# Altium footprint library HyTechDevices.PCBLIB: 204 footprints (part 2 of 13)
Each footprint in its own frame and in the unit in brackets; x right, y up, seen from the top. Pads: shape width x height; smd on the part's side, far side on the other; paste and mask are expansions set on the pad; w line width, h text height; cw(c..) or ccw(c..) is an arc to the next point about the centre after c.
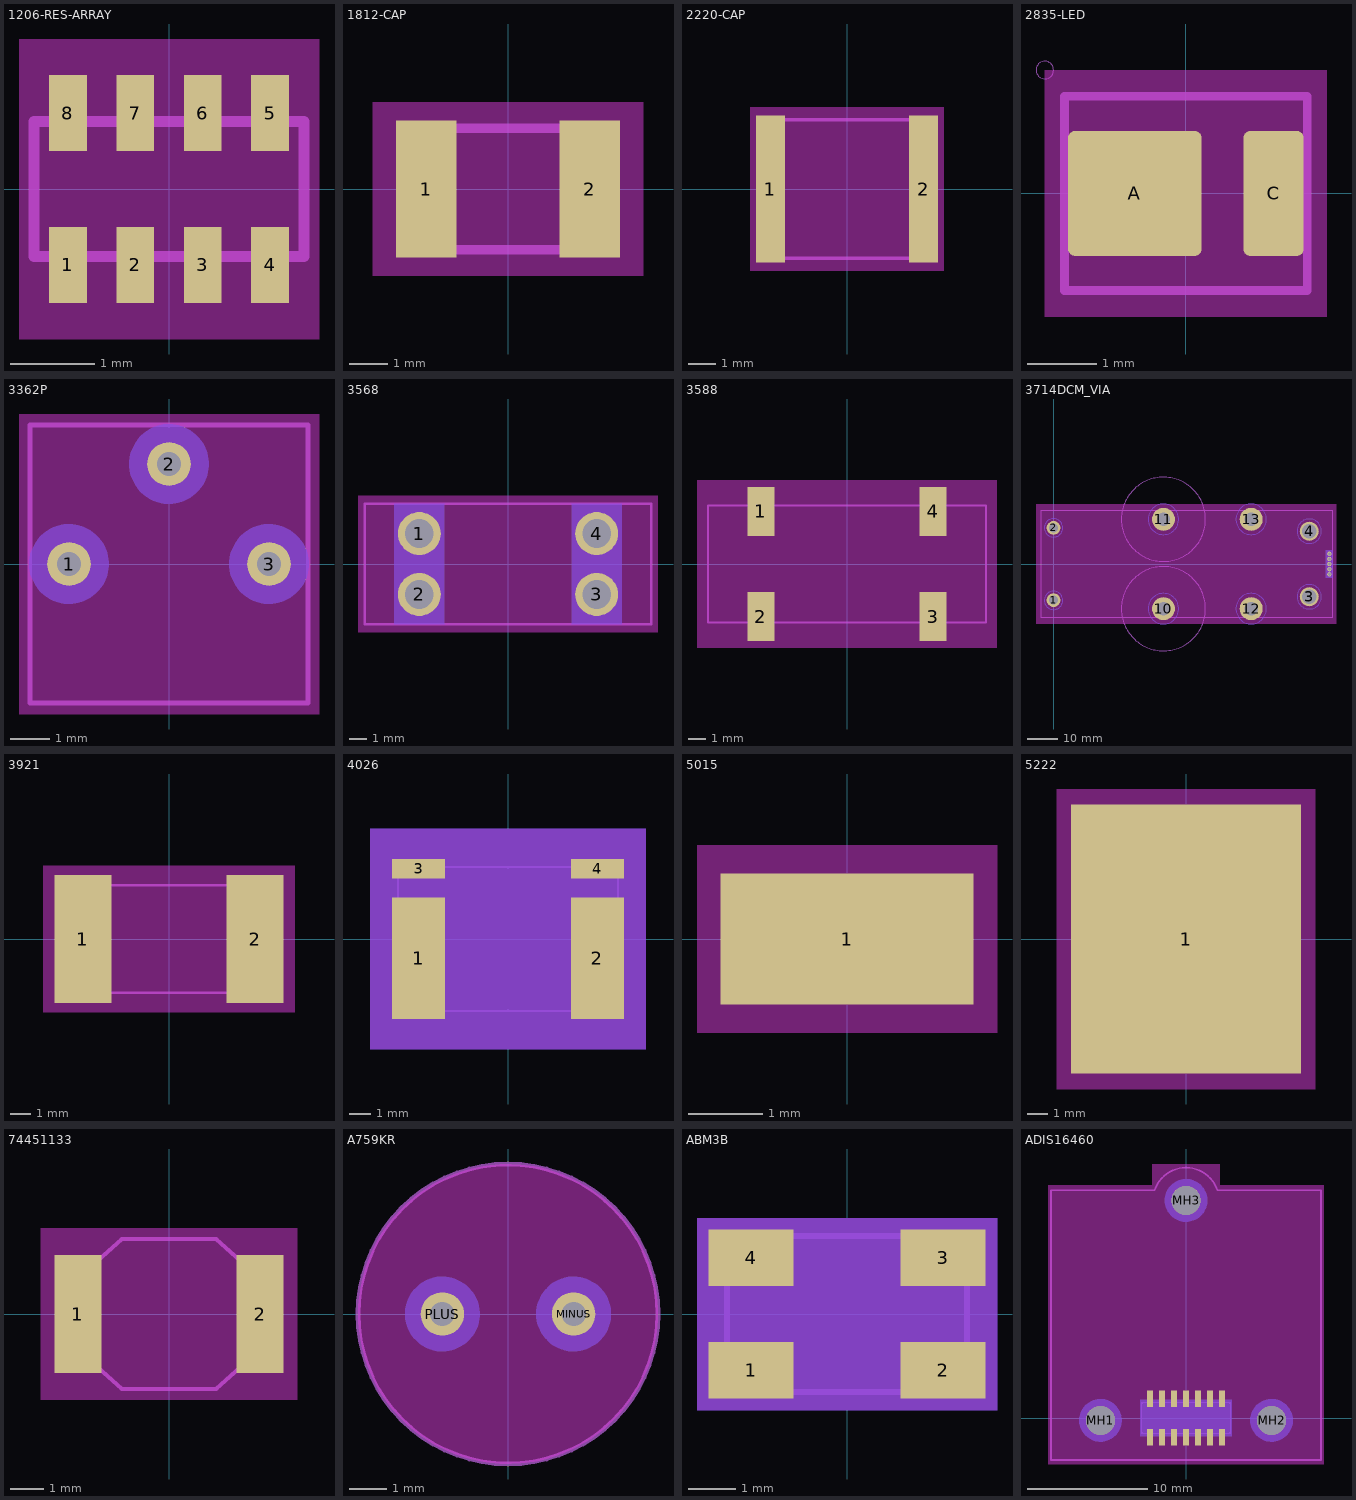
[diagram p1: the footprints below, top view; thin cyan lines are the x and y axes]

## 1206-RES-ARRAY [mil]
pads (8):
  rect 17.72x35.43 smd: 1(-47.24,-35.43) 2(-15.75,-35.43) 3(15.75,-35.43) 4(47.24,-35.43) 5(47.24,35.43) 6(15.75,35.43) 7(-15.75,35.43) 8(-47.24,35.43)
Top keep-out:
  region: -70,-70 -70,70 70,70 70,-70
tPlace:
  lines w5: -62.99,-31.5 62.99,-31.5 62.99,31.5 -62.99,31.5 -62.99,-31.5

## 1812-CAP [mil]
pads (2):
  rect 62.99x141.73 smd: 1(-84.65,0) 2(84.65,0)
Top keep-out:
  region: -140,-90 -140,90 140,90 140,-90
tPlace:
  lines w10: -98.43,-62.99 98.43,-62.99 98.43,62.99 -98.43,62.99 -98.43,-62.99

## 2220-CAP [mil]
pads (2):
  rect 41.34x208.66 smd: 1(-109.25,0) 2(109.25,0)
Top keep-out:
  region: -137.8,-116.14 -137.8,116.14 137.8,116.14 137.8,-116.14
tPlace:
  lines w5: -112.2,-98.43 112.2,-98.43 112.2,98.43 -112.2,98.43 -112.2,-98.43

## 2835-LED [mil]
pads (2):
  rrect11% 75.98x70.87 smd: A(-28.94,0)
  rrect22% 34.25x70.87 smd: C(49.8,0)
Top keep-out:
  region: -80,-70 -80,70 80,70 80,-70
tPlace:
  circle w0: c-80,70 r5
  lines w5: -68.9,-55.12 68.9,-55.12 68.9,55.12 -68.9,55.12 -68.9,-55.12
  text "+ -" at 0,60 h27.2

## 3362P [mil]
pads (3):
  round 43.62 hole 23.62: 1(-100,0) 2(0,100) 3(100,0)
Top keep-out:
  region: -150,-150 -150,150 150,150 150,-150
Bottom keep-out:
  circle w40: c-100,0 r20
  circle w40: c100,0 r20
  circle w40: c0,100 r20
tPlace:
  lines w5: -138.98,-138.98 138.98,-138.98 138.98,138.98 -138.98,138.98 -138.98,-138.98

## 3568 [mil]
pads (4):
  round 94.5 hole 63: 1(-195,67) 2(-195,-67) 3(195,-67) 4(195,67)
Top keep-out:
  region: -330,-150 -330,150 330,150 330,-150
Bottom keep-out:
  region: -250,-132.5 -250,132.5 -140,132.5 -140,-132.5
  region: 140,-132.5 140,132.5 250,132.5 250,-132.5
tPlace:
  lines w5: -315,-132.5 -315,132.5 315,132.5 315,-132.5 -315,-132.5

## 3588 [mil]
pads (4):
  rect 62x111 smd: 1(-195,119.5) 2(-195,-119.5) 3(195,-119.5) 4(195,119.5)
Top keep-out:
  region: -340,-190 -340,190 340,190 340,-190
tPlace:
  lines w5: -315,-132.5 315,-132.5 315,132.5 -315,132.5 -315,-132.5

## 3714DCM_VIA [mil]
pads (13):
  round 180 hole 120: 1(0,-473.5) 2(0,473.5)
  round 250 hole 190: 3(3350,-429.5) 4(3350,429.5)
  round 56 hole 40: 5(3613,-134.5) 6(3613,-67.5) 7(3613,-0.5) 8(3613,66.5) 9(3613,133.5)
  round 300 hole 172: 10(1439,-585.5) 11(1439,585.5) 12(2589,-585.5) 13(2589,585.5)
Top keep-out:
  region: -230,-780 -230,780 3700,780 3700,-780
Bottom keep-out:
  circle w5: c0,473.5 r120
  circle w5: c0,-476.5 r120
  circle w5: c1439,585.5 r200
  circle w5: c1439,-585.5 r200
  circle w5: c2589,585.5 r200
  circle w5: c2589,-585.5 r200
  circle w5: c3350,-429.5 r160
  circle w5: c3350,429.5 r160
  region: 3566,-180.5 3566,180.5 3660,180.5 3660,-180.5
Top Solder:
  region: 3635.25,-23 3590.75,-23 3588.44,-20.76 3584.79,-15.45 3582.28,-9.53 3581,-3.22 3581,3.22 3582.28,9.53 3584.79,15.45 3588.44,20.76 3590.75,23 3635.25,23 3637.56,20.76 3641.21,15.45 3643.72,9.53 3645,3.22 3645,-3.22 3643.72,-9.53 3641.21,-15.45 3637.56,-20.76 3635.25,-23
  region: 3635.25,44 3590.75,44 3588.44,46.24 3584.79,51.55 3582.28,57.47 3581,63.78 3581,70.22 3582.28,76.53 3584.79,82.45 3588.44,87.76 3590.75,90 3635.25,90 3637.56,87.76 3641.21,82.45 3643.72,76.53 3645,70.22 3645,63.78 3643.72,57.47 3641.21,51.55 3637.56,46.24 3635.25,44
  region: 3635.25,-90 3590.75,-90 3588.44,-87.76 3584.79,-82.45 3582.28,-76.53 3581,-70.22 3581,-63.78 3582.28,-57.47 3584.79,-51.55 3588.44,-46.24 3590.75,-44 3635.25,-44 3637.56,-46.24 3641.21,-51.55 3643.72,-57.47 3645,-63.78 3645,-70.22 3643.72,-76.53 3641.21,-82.45 3637.56,-87.76 3635.25,-90
  region: 3635.25,111 3590.75,111 3588.44,113.24 3584.79,118.55 3582.28,124.47 3581,130.78 3581,137.22 3582.28,143.53 3584.79,149.45 3588.44,154.76 3590.75,157 3635.25,157 3637.56,154.76 3641.21,149.45 3643.72,143.53 3645,137.22 3645,130.78 3643.72,124.47 3641.21,118.55 3637.56,113.24 3635.25,111
  region: 3635.25,-157 3590.75,-157 3588.44,-154.76 3584.79,-149.45 3582.28,-143.53 3581,-137.22 3581,-130.78 3582.28,-124.47 3584.79,-118.55 3588.44,-113.24 3590.75,-111 3635.25,-111 3637.56,-113.24 3641.21,-118.55 3643.72,-124.47 3645,-130.78 3645,-137.22 3643.72,-143.53 3641.21,-149.45 3637.56,-154.76 3635.25,-157
  region: 3590.75,157 3592.97,159.14 3598.14,162.51 3603.86,164.82 3609.92,166 3616.08,166 3622.14,164.82 3627.86,162.51 3633.03,159.14 3635.25,157
  region: 3590.75,-157 3592.97,-159.14 3598.14,-162.51 3603.86,-164.82 3609.92,-166 3616.08,-166 3622.14,-164.82 3627.86,-162.51 3633.03,-159.14 3635.25,-157
Bottom Solder:
  region: 3635.25,44 3590.75,44 3588.44,46.24 3584.79,51.55 3582.28,57.47 3581,63.78 3581,70.22 3582.28,76.53 3584.79,82.45 3588.44,87.76 3590.75,90 3635.25,90 3637.56,87.76 3641.21,82.45 3643.72,76.53 3645,70.22 3645,63.78 3643.72,57.47 3641.21,51.55 3637.56,46.24 3635.25,44
  region: 3635.25,-23 3590.75,-23 3588.44,-20.76 3584.79,-15.45 3582.28,-9.53 3581,-3.22 3581,3.22 3582.28,9.53 3584.79,15.45 3588.44,20.76 3590.75,23 3635.25,23 3637.56,20.76 3641.21,15.45 3643.72,9.53 3645,3.22 3645,-3.22 3643.72,-9.53 3641.21,-15.45 3637.56,-20.76 3635.25,-23
  region: 3635.25,-90 3590.75,-90 3588.44,-87.76 3584.79,-82.45 3582.28,-76.53 3581,-70.22 3581,-63.78 3582.28,-57.47 3584.79,-51.55 3588.44,-46.24 3590.75,-44 3635.25,-44 3637.56,-46.24 3641.21,-51.55 3643.72,-57.47 3645,-63.78 3645,-70.22 3643.72,-76.53 3641.21,-82.45 3637.56,-87.76 3635.25,-90
  region: 3635.25,111 3590.75,111 3588.44,113.24 3584.79,118.55 3582.28,124.47 3581,130.78 3581,137.22 3582.28,143.53 3584.79,149.45 3588.44,154.76 3590.75,157 3635.25,157 3637.56,154.76 3641.21,149.45 3643.72,143.53 3645,137.22 3645,130.78 3643.72,124.47 3641.21,118.55 3637.56,113.24 3635.25,111
  region: 3635.25,-157 3590.75,-157 3588.44,-154.76 3584.79,-149.45 3582.28,-143.53 3581,-137.22 3581,-130.78 3582.28,-124.47 3584.79,-118.55 3588.44,-113.24 3590.75,-111 3635.25,-111 3637.56,-113.24 3641.21,-118.55 3643.72,-124.47 3645,-130.78 3645,-137.22 3643.72,-143.53 3641.21,-149.45 3637.56,-154.76 3635.25,-157
  region: 3590.75,157 3592.97,159.14 3598.14,162.51 3603.86,164.82 3609.92,166 3616.08,166 3622.14,164.82 3627.86,162.51 3633.03,159.14 3635.25,157
  region: 3590.75,-157 3592.97,-159.14 3598.14,-162.51 3603.86,-164.82 3609.92,-166 3616.08,-166 3622.14,-164.82 3627.86,-162.51 3633.03,-159.14 3635.25,-157
tDocu:
  circle w5: c1439,585.5 r551.18
  circle w5: c1439,-585.5 r551.18
bDocu:
  circle w5: c1439,585.5 r551.18
  circle w5: c1439,-585.5 r551.18
tPlace:
  lines w5: -171,-700 -171,700 3659,700 3659,-700 -171,-700

## 3921 [mm]
pads (2):
  rect 2.75x6.2 smd: 1(-4.175,0) 2(4.175,0)
Top keep-out:
  region: -6.096,-3.556 -6.096,3.556 6.096,3.556 6.096,-3.556
tPlace:
  lines w0.127: -5,-2.6 5,-2.6 5,2.6 -5,2.6 -5,-2.6

## 4026 [mil]
pads (4):
  rect 96x220 smd: 1(-162,-35) 2(162,-35)
  rect 96x35 smd: 3(-162,127.5) 4(162,127.5)
Top keep-out:
  region: -250,-200 -250,200 250,200 250,-200
Bottom keep-out:
  region: -250,-200 -250,200 250,200 250,-200
tPlace:
  lines w5: -200,-130 200,-130 200,130 -200,130 -200,-130

## 5015 [mil]
pads (1):
  rect 135x70 smd: 1(0,0)
Top keep-out:
  region: -80,-50 -80,50 80,50 80,-50

## 5222 [mil]
pads (1):
  rect 445x520 smd: 1(0,0)
Top keep-out:
  region: -250,-290 -250,290 250,290 250,-290

## 74451133 [mil]
pads (2):
  rect 55.12x137.8 smd: 1(-106.3,0) 2(106.3,0)
Top keep-out:
  region: -150,-100 -150,100 150,100 150,-100
tPlace:
  lines w5: -125,-25 -55.12,-87.6 55.12,-87.6 125,-25 125,25 55.12,87.6 -55.12,87.6 -125,25 -125,-25

## A759KR [mm]
pads (2):
  round 1.158 hole 0.65: MINUS(1.75,0) PLUS(-1.75,0)
Top keep-out:
  circle w4: c0,0 r2
Bottom keep-out:
  circle w1: c-1.75,0 r0.5
  circle w1: c1.75,0 r0.5
tPlace:
  circle w0.127: c0,0 r4
  text "-" at 4.88,0 h2.76
  text "+" at -4.87,0 h2.76

## ABM3B [mil]
pads (4):
  rect 71x47 smd: 1(-80,-47) 2(80,-47) 3(80,47) 4(-80,47)
Top keep-out:
  region: -125,-80 -125,80 125,80 125,-80
  region: -125,-80 -125,80 125,80 125,-80
Bottom keep-out:
  region: -125,-80 -125,80 125,80 125,-80
tPlace:
  lines w5: -100,-65 -100,65 100,65 100,-65 -100,-65

## ADIS16460 [mm]
pads (17):
  rect 0.5x1.37 smd: 1(-3,1.6) 2(-3,-1.6) 3(-2,1.6) 4(-2,-1.6) 5(-1,1.6) 6(-1,-1.6) 7(0,1.6) 8(0,-1.6) 9(1,1.6) 10(1,-1.6) 11(2,1.6) 12(2,-1.6) 13(3,1.6) 14(3,-1.6)
  round 2.4 hole 2.4 unplated: MH1(-7.1,-0.19) MH2(7.1,-0.19) MH3(0,18.06)
Top keep-out:
  region: -11.43,-3.81 -11.43,19.304 11.43,19.304 11.43,-3.81
  region: -2.794,19.304 -2.794,21.082 2.794,21.082 2.794,19.304
Bottom keep-out:
  circle w1.778: c-7.1,-0.19 r0.889
  circle w1.778: c7.1,-0.19 r0.889
  circle w1.778: c0,18.06 r0.889
  region: -3.81,-1.524 -3.81,1.524 3.81,1.524 3.81,-1.524
tPlace:
  lines w0.127: -3.659,-1.27 3.659,-1.27 3.659,1.27 -3.659,1.27 -3.659,-1.27
  lines w0.152: -11.2,-3.49 -11.2,18.91 -2.6,18.91 cw(c0,18.04) 2.6,18.91 11.2,18.91 11.2,-3.49 -11.2,-3.49